# Altium footprint library TSSOP-16.PcbLib: 1 footprints
Each footprint in its own frame and in the unit in brackets; x right, y up, seen from the top. Pads: shape width x height; smd on the part's side, far side on the other; paste and mask are expansions set on the pad; w line width, h text height; cw(c..) or ccw(c..) is an arc to the next point about the centre after c.
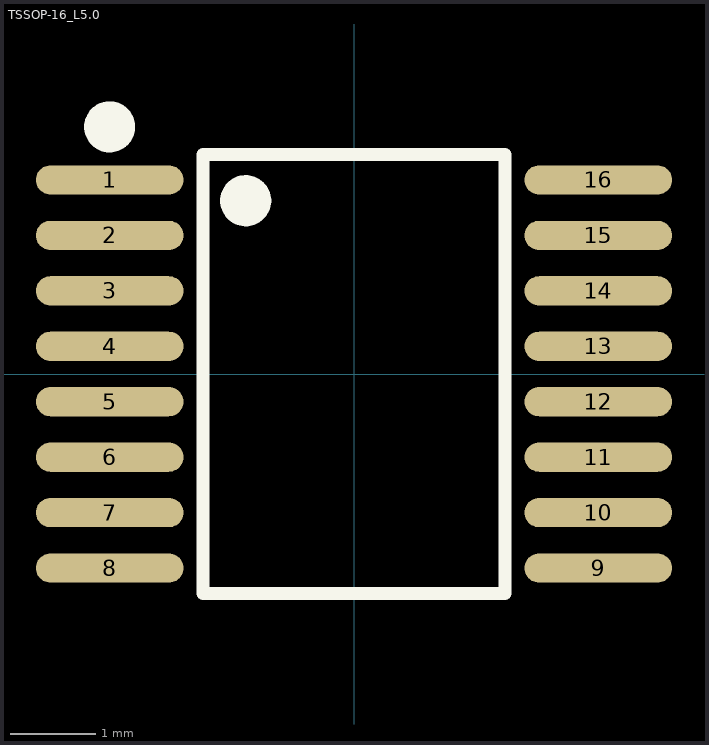
[diagram p0: the footprint, top view; thin cyan lines are the x and y axes]

## TSSOP-16_L5.0 [mil]
pads (16):
  oval 68.2x13.5 smd mask+2: 1(-112.8,89.6) 2(-112.8,64) 3(-112.8,38.4) 4(-112.8,12.8) 5(-112.8,-12.8) 6(-112.8,-38.4) 7(-112.8,-64) 8(-112.8,-89.6) 9(112.8,-89.6) 10(112.8,-64) 11(112.8,-38.4) 12(112.8,-12.8) 13(112.8,12.8) 14(112.8,38.4) 15(112.8,64) 16(112.8,89.6)
Top Overlay:
  circle w11.8: c-50,80 r5.9
  circle w11.8: c-112.8,114.1 r5.9
  lines w6: -69.7,-101.4 69.7,-101.4 69.7,101.4 -69.7,101.4 -69.7,-101.4